# Altium footprint library FlyBox2.PcbLib: 11 footprints
Each footprint in its own frame and in the unit in brackets; x right, y up, seen from the top. Pads: shape width x height; smd on the part's side, far side on the other; paste and mask are expansions set on the pad; w line width, h text height; cw(c..) or ccw(c..) is an arc to the next point about the centre after c.
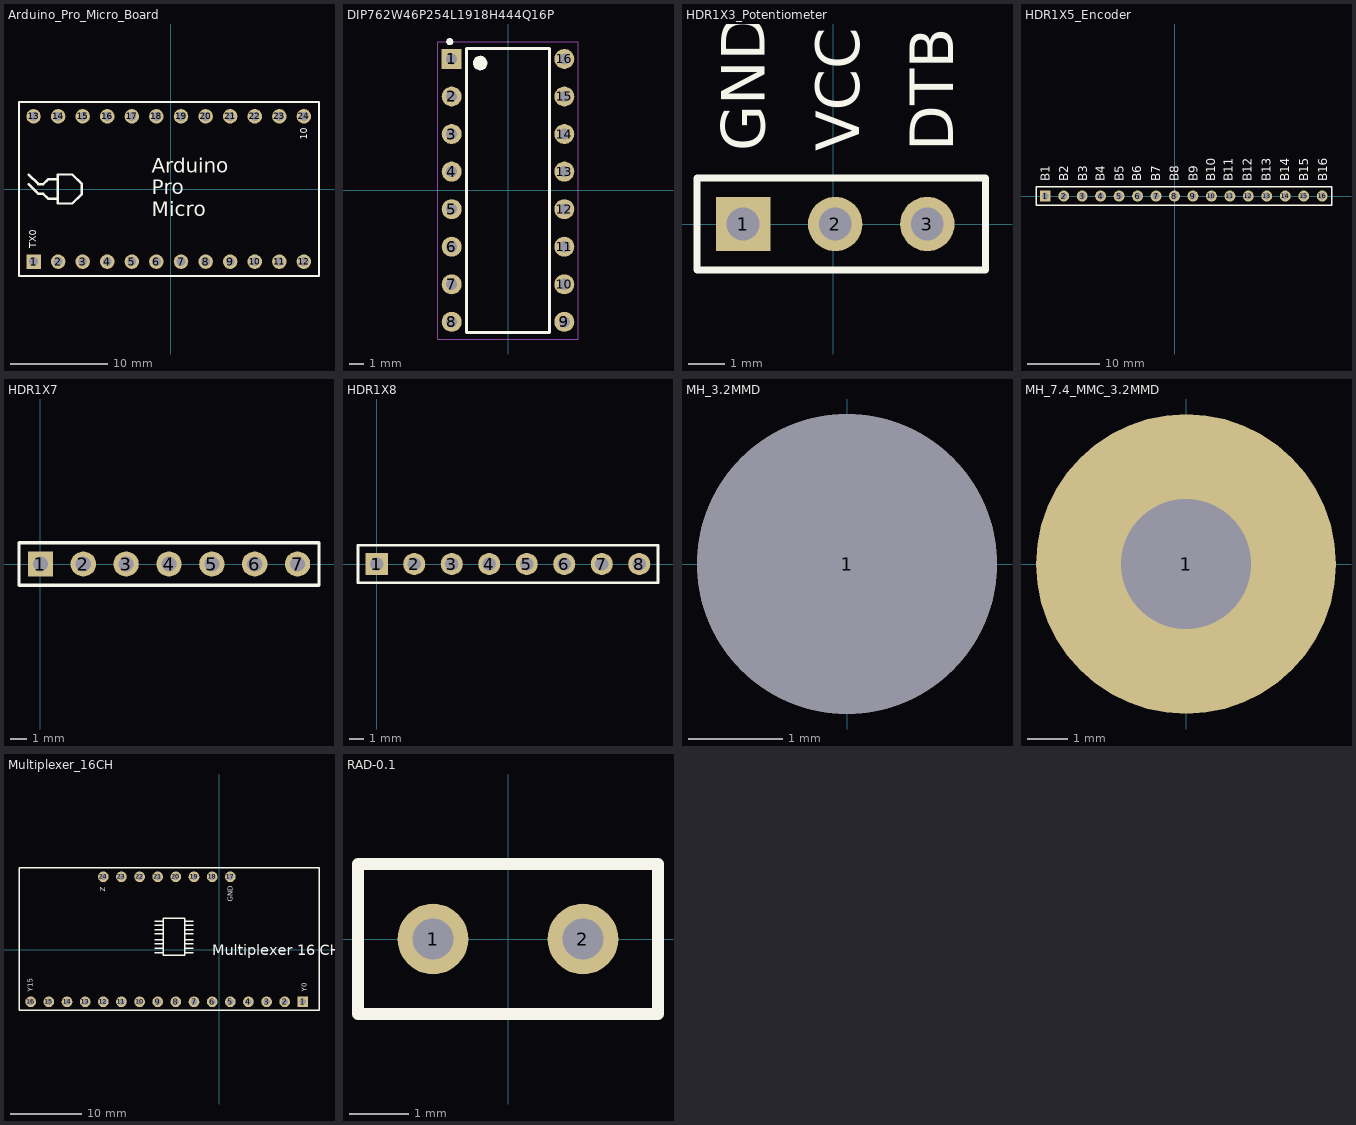
[diagram p0: the footprints below, top view; thin cyan lines are the x and y axes]

## Arduino_Pro_Micro_Board [mm]
pads (24):
  rect 1.5x1.5 hole 0.9: 1(-14.2,-7.5)
  round 1.5 hole 0.9: 2(-11.66,-7.5) 3(-9.12,-7.5) 4(-6.58,-7.5) 5(-4.04,-7.5) 6(-1.5,-7.5) 7(1.04,-7.5) 8(3.58,-7.5) 9(6.12,-7.5) 10(8.66,-7.5) 11(11.2,-7.5) 12(13.74,-7.5) 13(-14.2,7.5) 14(-11.66,7.5) 15(-9.12,7.5) 16(-6.58,7.5) 17(-4.04,7.5) 18(-1.5,7.5) 19(1.04,7.5) 20(3.58,7.5) 21(6.12,7.5) 22(8.66,7.5) 23(11.2,7.5) 24(13.74,7.5)
Top Overlay:
  lines w0.2: -15.7,-9 15.3,-9 15.3,9 -15.7,9 -15.7,-9
  lines w0.254: -14.7,0.5 -13.7,-0.5 -13.2,-0.5 -12.7,-1 -11.7,-1 ; -14.7,1.5 -13.7,0.5 -13.2,0.5 ; -11.7,0.5 -11.7,1.5 -10.2,1.5 -9.2,0.5 -9.2,-0.5 -10.2,-1.5 -11.7,-1.5 -11.7,-1 ; -13.2,0.5 -12.7,1 -11.7,1 -11.7,-1 ; -13.2,0.5 -13.2,0.5
  text "TX0" at -13.9,-6.1 h0.7
  text "10" at 14.1,5.1 h0.7
  text "Arduino / Pro / Micro" at -2.005,-2.8 h1.5
3D body "ARDUINO PRO MICRO.STEP": height 12.25, standoff -1.05, extent -19.58,-8.77 15.01,9.01

## DIP762W46P254L1918H444Q16P [mm]
pads (16):
  rect 1.35x1.35 hole 0.75: 1(-3.81,8.89)
  round 1.35 hole 0.75: 2(-3.81,6.35) 3(-3.81,3.81) 4(-3.81,1.27) 5(-3.81,-1.27) 6(-3.81,-3.81) 7(-3.81,-6.35) 8(-3.81,-8.89) 9(3.81,-8.89) 10(3.81,-6.35) 11(3.81,-3.81) 12(3.81,-1.27) 13(3.81,1.27) 14(3.81,3.81) 15(3.81,6.35) 16(3.81,8.89)
Top Overlay:
  circle w0.127: c-1.88,8.611 r0.432
  circle w0.127: c-1.88,8.611 r0.342
  circle w0.127: c-1.88,8.611 r0.27
  circle w0.127: c-1.88,8.611 r0.18
  circle w0.127: c-1.854,8.585 r0.08
  circle w0.127: c-1.956,8.712 r0.148
  circle w0.127: c-1.981,8.585 r0.144
  circle w0.127: c-3.937,10.058 r0.18
  circle w0.127: c-3.937,10.084 r0.114
  circle w0.127: c-3.937,10.084 r0.057
  lines w0.2: -2.8,-9.6 2.8,-9.6 2.8,9.6 -2.8,9.6 -2.8,-9.6
Mechanical 15:
  lines w0.05: -4.75,-10.05 4.75,-10.05 4.75,10.05 -4.75,10.05 -4.75,-10.05
3D body "DIP16.STEP": height 4.7, standoff -2.6, extent -3.935,-9.98 3.935,9.98

## HDR1X3_Potentiometer [mm]
pads (3):
  rect 1.5x1.5 hole 0.9: 1(-2.48,0)
  round 1.5 hole 0.9: 2(0.06,0) 3(2.6,0)
Top Overlay:
  lines w0.2: -3.75,-1.27 -3.75,1.27 4.2,1.27 4.2,-1.27 -3.75,-1.27
  text "VCC" at 0.72,2 h1.2
  text "GND" at -1.88,2 h1.2
  text "DTB" at 3.32,2 h1.2

## HDR1X5_Encoder [mm] "Header 5 pins for Encoder module"
pads (16):
  rect 1.5x1.5 hole 0.9: 1(-17.8,0)
  round 1.5 hole 0.9: 2(-15.26,0) 3(-12.72,0) 4(-10.18,0) 5(-7.64,0) 6(-5.1,0) 7(-2.56,0) 8(-0.02,0) 9(2.52,0) 10(5.06,0) 11(7.6,0) 12(10.14,0) 13(12.68,0) 14(15.22,0) 15(17.76,0) 16(20.3,0)
Top Overlay:
  lines w0.2: -19.07,-1.27 21.6,-1.27 21.6,1.27 -19.07,1.27 -19.07,-1.27
  text "B16" at 21,2 h1.2
  text "B15" at 18.4,2 h1.2
  text "B14" at 15.8,2 h1.2
  text "B13" at 13.2,2 h1.2
  text "B11" at 8,2 h1.2
  text "B12" at 10.6,2 h1.2
  text "B9" at 3.2,2 h1.2
  text "B10" at 5.6,2 h1.2
  text "B8" at 0.6,2 h1.2
  text "B6" at -4.6,2 h1.2
  text "B7" at -2,2 h1.2
  text "B4" at -9.6,2 h1.2
  text "B5" at -7,2 h1.2
  text "B3" at -12,2 h1.2
  text "B1" at -17.2,2 h1.2
  text "B2" at -14.6,2 h1.2

## HDR1X7 [mm] "Connector; Header; 7 Position"
pads (7):
  rect 1.5x1.5 hole 0.9: 1(0,0)
  round 1.5 hole 0.9: 2(2.54,0) 3(5.08,0) 4(7.62,0) 5(10.16,0) 6(12.7,0) 7(15.24,0)
Top Overlay:
  lines w0.2: -1.27,-1.27 -1.27,1.27 16.51,1.27 16.51,-1.27 -1.27,-1.27
3D body "Pin Header 1x7 TH Pitch 2.54mm.stp": height 9.5, standoff -3.2, extent -1.27,-1.27 16.51,1.27

## HDR1X8 [mm] "Connector; Header; 8 Position"
pads (8):
  rect 1.5x1.5 hole 0.9: 1(0,0)
  round 1.5 hole 0.9: 2(2.54,0) 3(5.08,0) 4(7.62,0) 5(10.16,0) 6(12.7,0) 7(15.24,0) 8(17.78,0)
Top Overlay:
  lines w0.2: -1.27,-1.27 -1.27,1.27 19.05,1.27 19.05,-1.27 -1.27,-1.27
3D body "Pin Header 1x8 TH Pitch 2.54mm.stp": height 9.5, standoff -3.2, extent -1.27,-1.27 19.05,1.27

## HDR1X16_Buttons [mm]

## MH_3.2MMD [mm]
pads (1):
  round 3.2 hole 3.2 unplated: 1(0,0)

## MH_7.4_MMC_3.2MMD [mm] "Mounting Hole 7.4mm Diameter, 3.2mm Drill"
pads (1):
  round 7.4 hole 3.2: 1(0,0)

## Multiplexer_16CH [mm]
pads (24):
  rect 1.5x1.5 hole 0.9: 1(11.74,-7.3)
  round 1.5 hole 0.9: 2(9.2,-7.3) 3(6.66,-7.3) 4(4.12,-7.3) 5(1.58,-7.3) 6(-0.96,-7.3) 7(-3.5,-7.3) 8(-6.04,-7.3) 9(-8.58,-7.3) 10(-11.12,-7.3) 11(-13.66,-7.3) 12(-16.2,-7.3) 13(-18.74,-7.3) 14(-21.28,-7.3) 15(-23.82,-7.3) 16(-26.36,-7.3) 17(1.58,10.2) 18(-0.96,10.2) 19(-3.5,10.2) 20(-6.04,10.2) 21(-8.58,10.2) 22(-11.12,10.2) 23(-13.66,10.2) 24(-16.2,10.2)
Top Overlay:
  lines w0.2: -9,-0.4 -7.8,-0.4 ; -9,0.2 -7.8,0.2 ; -9,0.8 -7.8,0.8 ; -9,1.4 -7.8,1.4 ; -9,2.2 -7.8,2.2 ; -9,2.8 -7.8,2.8 ; -9,3.4 -7.8,3.4 ; -9,4 -7.8,4 ; -4.8,-0.4 -3.6,-0.4 ; -4.8,0.2 -3.6,0.2 ; -4.8,0.8 -3.6,0.8 ; -4.8,1.4 -3.6,1.4 ; -4.8,2.2 -3.6,2.2 ; -4.8,2.8 -3.6,2.8 ; -4.8,3.4 -3.6,3.4 ; -4.8,4 -3.6,4 ; -28,-8.5 -28,11.5 14,11.5 14,-8.5 -28,-8.5 ; -7.8,-0.8 -7.8,4.4 -4.8,4.4 -4.8,-0.8 -7.8,-0.8
  text "Multiplexer 16 CH" at -0.917,-0.8 h1.5
  text "GND" at 1.9,6.7 h0.7
  text "Y15" at -26.1,-5.9 h0.7
  text "Z" at -15.9,8.1 h0.7
  text "Y0" at 12.251,-5.9 h0.7

## RAD-0.1 [mm] "Radial Cap, Thru-Hole; 2 Leads; 0.1 in Pin Spacing"
pads (2):
  round 1.2 hole 0.7: 1(-1.27,0) 2(1.27,0)
Top Overlay:
  lines w0.2: -2.54,-1.27 -2.54,1.27 2.54,1.27 2.54,-1.27 -2.54,-1.27
3D body "10pF Ceramic Disc 2.SLDPRT": height 9.35, standoff -4.68, extent -2.35,-1.25 2.349,1.25